# Altium schematic symbol library Karen_Components.SchLib: 203 symbols (part 2 of 2)
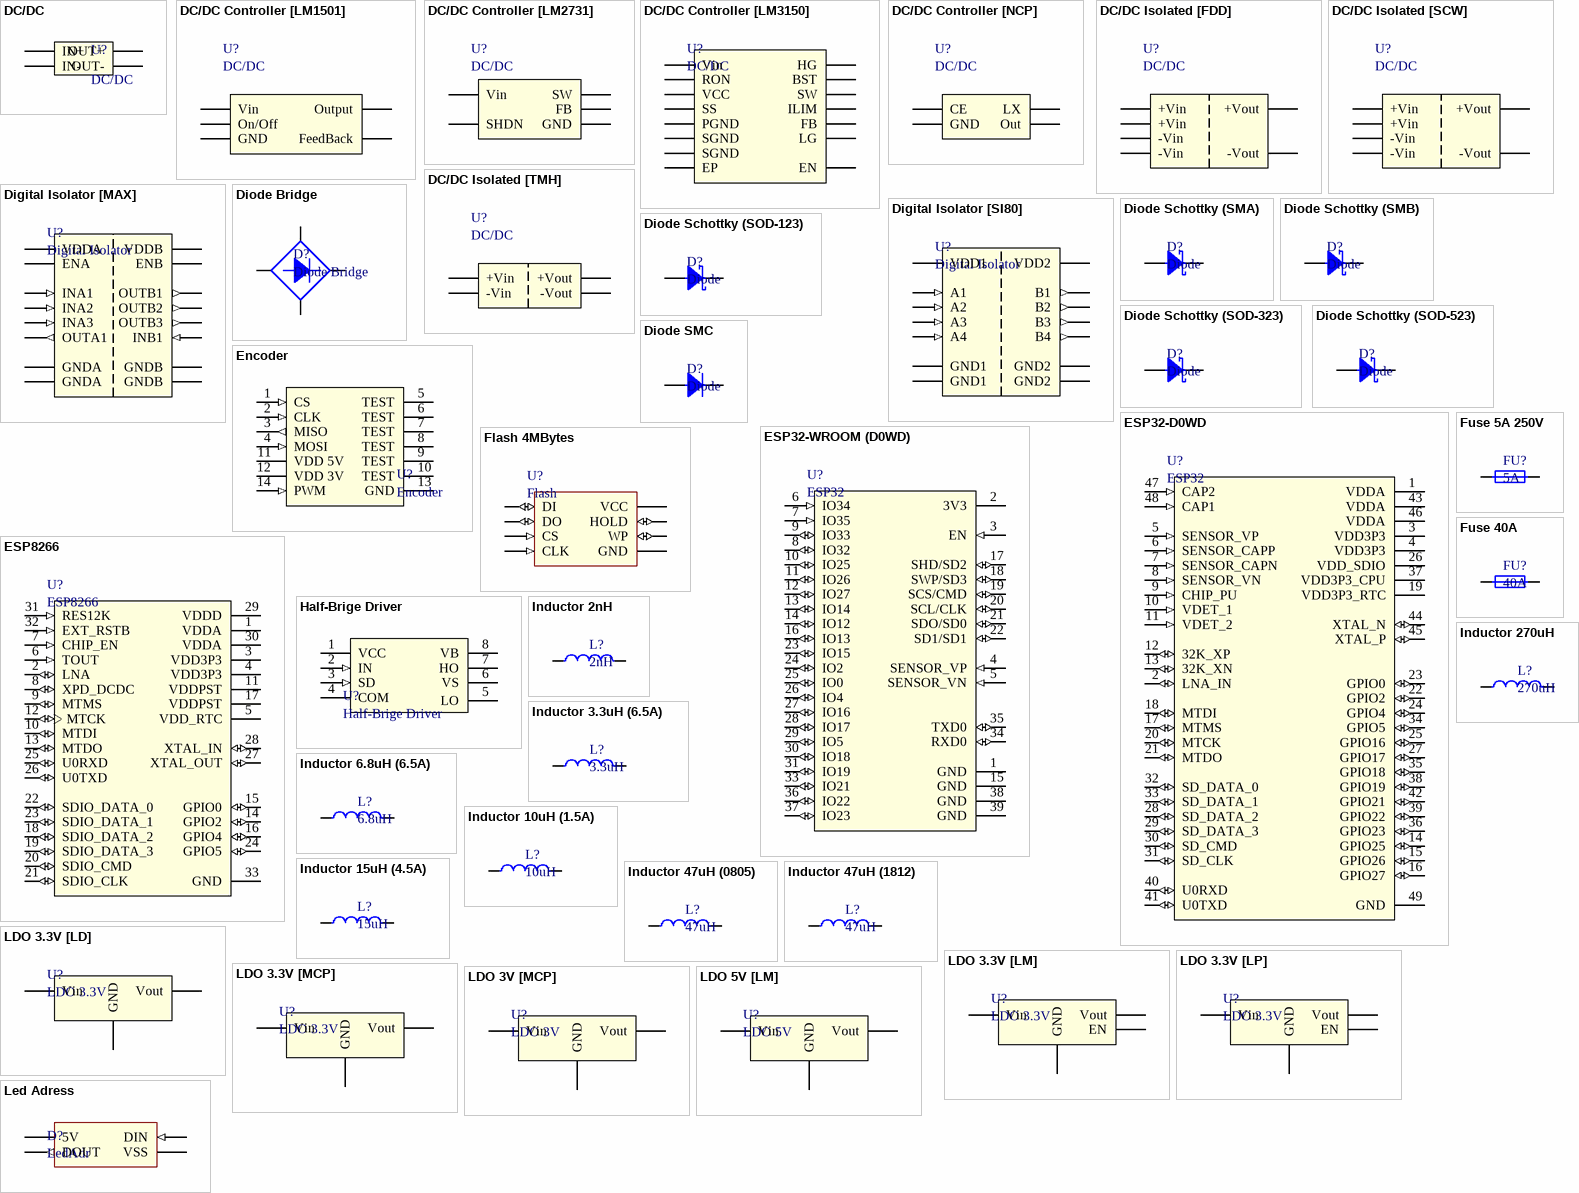
[diagram p6: symbols DC/DC to Led Adress]

## Inductor 2nH
designator L?, comment 2nH
0603, 5%; Part Number: LQG18HN8N2J00D; Manufacturer: Murata Manufacturing; Type: Inductor; ComponentLink1Description: DataSheet; ComponentLink1URL: https://static6.arrow.com/aropdfconversion/c1583adeb79d7b8ba7badcc32120e4a48424949a/product.pdf; ComponentLink2Description: Chip&Dip; ComponentLink2URL: https://www.chipdip.ru/product/lqg18hn8n2j
footprint 0603 Resistor
pins: 1, 2

## Inductor 3.3uH (6.5A)
designator L?, comment 3.3uH
3.3uH, 5.4x5.1x2, 6.5A; Part Number: SPM5020T-3R3M-LR; Manufacturer: TDK; Type: Inductor; ComponentLink1Description: DataSheet; ComponentLink1URL: https://static.chipdip.ru/lib/015/DOC004015227.pdf; ComponentLink2Description: Chip&Dip; ComponentLink2URL: https://www.chipdip.ru/product0/9000523845
footprint Inductor 5.4x5.1
pins: 1, 2

## Inductor 6.8uH (6.5A)
designator L?, comment 6.8uH
6.8 uH, 4.2 А, 20%, 5.4х5.1х2mm; Part Number: SPM5020T-6R8M-LR; Manufacturer: TDK; Type: Inductor; ComponentLink1Description: DataSheet; ComponentLink1URL: https://static.chipdip.ru/lib/015/DOC004015227.pdf; ComponentLink2Description: Chip&Dip; ComponentLink2URL: https://www.chipdip.ru/product0/9000523846
footprint Inductor 5.4x5.1
pins: 1, 2

## Inductor 10uH (1.5A)
designator L?, comment 10uH
10uH, D=5.8mm, 1450mA; Part Number: SDR0604-100ML; Manufacturer: Bourns; Type: Inductor; ComponentLink1Description: DataSheet; ComponentLink1URL: http://www.farnell.com/datasheets/1635216.pdf; ComponentLink2Description: Chip&Dip; ComponentLink2URL: https://www.chipdip.ru/product/sdr0604-100ml
footprint SDR
pins: 1, 2

## Inductor 15uH (4.5A)
designator L?, comment 15uH
15uH, 12.8x12.8, 4.5A; Part Number: B82477G4153M; Manufacturer: Epcos; Type: Inductor; ComponentLink1Description: DataSheet; ComponentLink1URL: https://static.chipdip.ru/lib/009/DOC001009882.pdf; ComponentLink2Description: Chip&Dip; ComponentLink2URL: https://www.chipdip.ru/product/b82477g4153m
footprint Inductor 12.8 x 12.8 x 8.0
pins: 1, 2

## Inductor 47uH (0805)
designator L?, comment 47uH
20%; Part Number: MLZ2012M470WT000; Manufacturer: TDK; Type: Inductor; ComponentLink1Description: DataSheet; ComponentLink1URL: https://static.chipdip.ru/lib/492/DOC001492193.pdf; ComponentLink2Description: Chip&Dip; ComponentLink2URL: https://www.chipdip.ru/product/mlz2012m470wt000-47
footprint 0805 Resistor
pins: 1, 2

## Inductor 47uH (1812)
designator L?, comment 47uH
Part Number: CM453232-470KL; Manufacturer: Bourns; Type: Inductor; ComponentLink1Description: DataSheet; ComponentLink1URL: http://www.farnell.com/datasheets/2277343.pdf; ComponentLink2Description: Chip&Dip; ComponentLink2URL: https://www.chipdip.ru/product/cm453232-470kl
footprint 1812 Inductor
pins: 1, 2

## Inductor 270uH
designator L?, comment 270uH
270 uH, 1210, 5%; Part Number: NLV32T-271J-EF; Manufacturer: TDK; Type: Inductor; ComponentLink1Description: DataSheet; ComponentLink1URL: https://static.chipdip.ru/lib/492/DOC001492199.pdf; ComponentLink2Description: Chip&Dip; ComponentLink2URL: https://www.chipdip.ru/product/nlv32t-271j-ef-270
footprint 1210 Inductor
pins: 1, 2

## LDO 3.3V [LD]
designator U?, comment LDO 3.3V
LDO Regulator Pos 3.3V 1.3A 4-Pin(3+Tab) SOT-223 T/R; Part Number: LD1117S33CTR; Manufacturer: STMicroelectronics; ComponentLink1Description: DataSheet; ComponentLink1URL: https://static.chipdip.ru/lib/292/DOC000292513.pdf; ComponentLink2Description: Chip&Dip; ComponentLink2URL: https://www.chipdip.ru/product/ld1117s33ctr-2
footprint SOT-223
pins: 1 GND (power), 2 Vout (power), 3 Vin (power)

## LDO 3.3V [LM]
designator U?, comment LDO 3.3V
low-dropout linear regulator. There are devices designed specifically for battery-operated systems. Ground current is very small (50uA-Typ), that significantly extending battery life. Low power consumption and high accuracy is achieved through CMOS and programmable fuse technologies. Output voltage: 1.5V to 6.0V.; Part Number: LM8805SF5-3.3; Manufacturer: TAEJIN TECHNOLOGY; ComponentLink1Description: DataSheet; ComponentLink1URL: https://static.chipdip.ru/lib/138/DOC004138842.pdf; ComponentLink2Description: Chip&Dip; ComponentLink2URL: https://www.chipdip.ru/product/lm8805sf5-3.3
footprint SOT-23-5
pins: 1 Vin (power), 2 GND (power), 3 EN (power), 5 Vout (power)

## LDO 3.3V [LP]
designator U?, comment LDO 3.3V
Low-noise LDO that can supply up  to 250mA output curren. This device is  available with fixed output voltages from 1.2 V to 4.5 V in 25-mV steps; Part Number: LP5907MFX-3.3/NOPB; Manufacturer: Texas Instruments; ComponentLink1Description: DataSheet; ComponentLink1URL: https://static.chipdip.ru/lib/551/DOC001551778.pdf; ComponentLink2Description: Chip&Dip; ComponentLink2URL: https://www.chipdip.ru/product/lp5907mfx-3.3-nopb; ComponentLink3Description: Elitan; ComponentLink3URL: https://www.elitan.ru/price/item9999140
footprint SOT-23-5
pins: 1 Vin (power), 2 GND (power), 3 EN (power), 5 Vout (power)

## LDO 3.3V [MCP]
designator U?, comment LDO 3.3V
A family of CMOS low dropout (LDO)voltage  regulators  that  can  deliver  up  to  250 mA  ofcurrent  while  consuming  only  1.6 μA  of  quiescentcurrent (typical). The input operating range is specifiedfrom 2.3V to 6.0V; Part Number: MCP1700T-3302E/TT; Manufacturer: Microchip; ComponentLink1Description: DataSheet; ComponentLink1URL: https://static.chipdip.ru/lib/276/DOC000276804.pdf; ComponentLink2Description: Chip&Dip; ComponentLink2URL: https://www.chipdip.ru/product/mcp1700t-3302e-tt; ComponentLink3Description: Elitan; ComponentLink3URL: https://www.elitan.ru/price/item595361
footprint SOT-23
pins: 1 GND (power), 2 Vout (power), 3 Vin (power)

## LDO 3V [MCP]
designator U?, comment LDO 3V
MCP1702 Low Dropout Voltage Regulator. The input operating range is specifiedfrom 2.7V to 13.2V; Part Number: MCP1702T-3002E/CB; Manufacturer: Microchip; ComponentLink1Description: DataSheet; ComponentLink1URL: https://static.chipdip.ru/lib/986/DOC003986671.pdf; ComponentLink2Description: Chip&Dip; ComponentLink2URL: https://www.chipdip.ru/product/mcp1702t-3002e-cb-microchip
footprint SOT-23
pins: 1 GND (power), 2 Vout (power), 3 Vin (power)

## LDO 5V [LM]
designator U?, comment LDO 5V
A low dropout Linear Regulator with a dropout of 5V at 800mA of load current; Part Number: LM1117IMPX-5.0/NOPB; Manufacturer: Texas Instruments; ComponentLink1Description: DataSheet; ComponentLink1URL: https://static.chipdip.ru/lib/276/DOC000276680.pdf; ComponentLink2Description: Chip&Dip; ComponentLink2URL: https://www.chipdip.ru/product/lm1117impx-5.0-nopb
footprint SOT-223
pins: 1 GND (power), 2 Vout (power), 3 Vin (power)

## Led Adress
designator D?, comment LedAdr
Manufacturer: Shenzhen Shining Opto-Electronic; Part Number: WS2812B; Type: Diode; ComponentLink1Description: DataSheet; ComponentLink1URL: https://static.chipdip.ru/lib/554/DOC001554925.pdf; ComponentLink2Description: Chip&Dip; ComponentLink2URL: https://www.chipdip.ru/product/ws2812b
footprint WS2812B
pins: 1 5V (power), 2 DOUT (out), 3 VSS (power), 4 DIN (in)

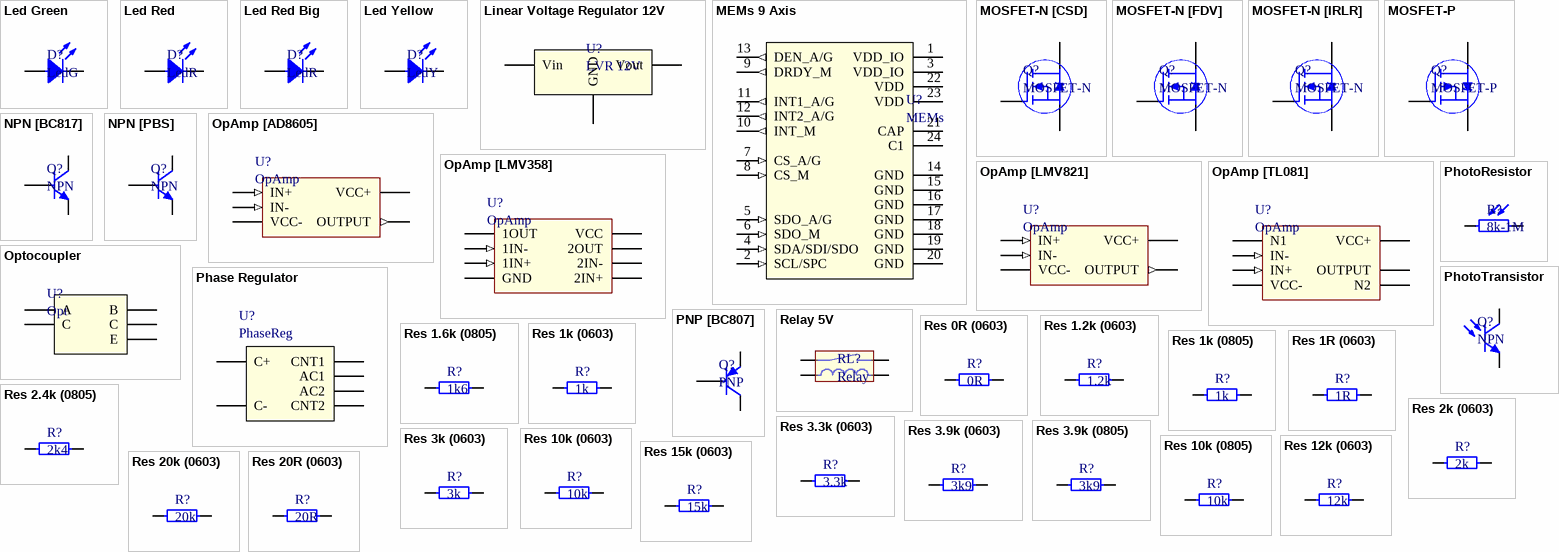
[diagram p3: symbols Led Green to Res 20R (0603)]

## Led Green
designator D?, comment LedG
Led Green SMD 1608, 120°, 525nM; Part Number: TO-1608BC-PG; Manufacturer: Taiwan Oasis Technology; Type: Diode; ComponentLink1Description: Chip&Dip; ComponentLink1URL: https://www.chipdip.ru/product/to-1608bc-pg
footprint 0805 LED
pins: 1, 2

## Led Red
designator D?, comment LedR
SMD 1608, 112mcd, 120°, 630nM (Ultra Bright Red); Part Number: TO-1608BC-MRE; Manufacturer: Taiwan Oasis Technology; Type: Diode; ComponentLink1Description: Chip&Dip; ComponentLink1URL: https://www.chipdip.ru/product/to-1608bc-mre
footprint 0805 LED
pins: 1, 2

## Led Red Big
designator D?, comment LedR
Led Red, SMD 3228, 120°, 630nM (Ultra Bright Red); Part Number: TO-3228BC-MRG; Manufacturer: Taiwan Oasis Technology; Type: Diode; ComponentLink1Description: Chip&Dip; ComponentLink1URL: https://www.chipdip.ru/product/to-3228bc-mrg
footprint LED
pins: 1, 2

## Led Yellow
designator D?, comment LedY
SMD 1608, 247mcd, 120°, 592nM (High Bright Yellow); Part Number: TO-1608BC-MYF; Manufacturer: Taiwan Oasis Technology; Type: Diode; ComponentLink1Description: Chip&Dip; ComponentLink1URL: https://www.chipdip.ru/product/to-1608bc-myf
footprint 0805 LED
pins: 1, 2

## Linear Voltage Regulator 12V
designator U?, comment LVR 12V
These regulators can provide local on-card regulation, eliminating the distribution problems associated with single point regulation.; Part Number: L7812CD2T-TR; Manufacturer: STMicroelectronics; ComponentLink1Description: Chip&Dip; ComponentLink1URL: https://www.chipdip.ru/product/l7812cd2t-tr; ComponentLink2Description: DataSheet; ComponentLink2URL: https://static.chipdip.ru/lib/804/DOC000804929.pdf
footprint D2-PAK (TO-262)
pins: 1 Vin (power), 2 GND (power), 3 Vout (power)

## MEMs 9 Axis
designator U?, comment MEMs
System-in-package featuring a 3D digital linear acceleration sensor, a 3D digital angular rate sensor, and a 3D digital magnetic sensor; Manufacturer: STMicroelectronics; Part Number: LSM9DS1TR; ComponentLink1Description: DataSheet; ComponentLink1URL: https://static.chipdip.ru/lib/427/DOC004427868.pdf; ComponentLink2Description: Chip&Dip; ComponentLink2URL: https://www.chipdip.ru/product/lsm9ds1tr; Type: IC
footprint LGA 3.5x3x1 mm 24-lead
pins: 1 VDD_IO (power) "Power supply for I/O pins", 2 SCL/SPC (in) "I2C serial clock (SCL) / SPI serial port clock (SPC)", 3 VDD_IO (power) "Power supply for I/O pins", 4 SDA/SDI/SDO (in) "I2C serial data (SDA); SPI serial data input (SDI); 3-wire interface serial data output (SDO)", 5 SDO_A/G (in) "SPI serial data output (SDO) for the accelerometer and gyroscopeI2C least significant bit of the device address (SA0) for the accelerometer and gyroscope", 6 SDO_M (in) "SPI serial data output (SDO) for the magnetometerI2C least significant bit of the device address (SA0) for the magnetometer", 7 CS_A/G (in) "SPI enable I2C/SPI mode selection for the accelerometer and gyroscope (1: SPI idle mode / I2C communication enabled; 0: SPI communication mode / I2C disabled)", 8 CS_M (in) "SPI enable I2C/SPI mode selection for the magnetometer (1: SPI idle mode / I2C communication enabled; 0: SPI communication mode / I2C disabled)", 9 DRDY_M (out) "Magnetic sensor data ready", 10 INT_M (out) "Magnetic sensor interrupt", 11 INT1_A/G (out) "Accelerometer and gyroscope interrupt 1", 12 INT2_A/G (out) "Accelerometer and gyroscope interrupt 2", 13 DEN_A/G (out) "Accelerometer and gyroscope data enable", 14 GND (power), 15 GND (power), 16 GND (power), 17 GND (power), 18 GND (power), 19 GND (power), 20 GND (power), 21 CAP (oc) "Connected to GND with ceramic capacitor", 22 VDD (power) "Power supply", 23 VDD (power) "Power supply", 24 C1 (oc) "Capacitor connection (C1 = 100 nF)"

## MOSFET-N [CSD]
designator Q?, comment MOSFET-N
NexFET™ N-channel Power MOSFET designed to minimize losses in power conversion applications; Part Number: CSD19534Q5A; Manufacturer: Texas Instruments; Type: Transistor; ComponentLink1Description: DataSheet; ComponentLink1URL: http://www.ti.com/lit/ds/symlink/csd19534q5a.pdf; ComponentLink2Description: Chip&Dip; ComponentLink2URL: https://www.chipdip.ru/product/csd19534q5at
footprint VSON
pins: 1 Gate, 2 Drain, 3 Source

## MOSFET-N [FDV]
designator Q?, comment MOSFET-N
These N-Channel enhancement mode field effect transistors areproduced  using  Fairchild's  proprietary,  high  cell  density,  DMOStechnology.; Part Number: FDV303N; Manufacturer: Fairchild Semiconductor; Type: Transistor; ComponentLink1Description: DataSheet; ComponentLink1URL: https://static.chipdip.ru/lib/009/DOC001009115.pdf; ComponentLink2Description: Chip&Dip; ComponentLink2URL: https://www.chipdip.ru/product/fdv303n
footprint SOT-23
pins: 1 Gate, 2 Source, 3 Drain

## MOSFET-N [IRLR]
designator Q?, comment MOSFET-N
Trans MOSFET N-CH Si 55V 89A 3-Pin(2+Tab) DPAK Tube; Part Number: IRLR3705ZTRPBF; Manufacturer: International Rectifier; Type: Transistor; ComponentLink1Description: DataSheet; ComponentLink1URL: https://static.chipdip.ru/lib/292/DOC000292789.pdf; ComponentLink2Description: Chip&Dip; ComponentLink2URL: https://www.chipdip.ru/product/irlr3705zpbf
footprint D-Pak (TO-252AA)
pins: 1 Gate, 2 Drain, 3 Source

## MOSFET-P
designator Q?
12VDS TrenchFET® P-channel enhancement-mode Power MOSFET suitable for load switch and battery switch applications; Part Number: SI2333DDS-T1-GE3; Manufacturer: Vishay; Type: Transistor; ComponentLink1Description: Chip&Dip; ComponentLink1URL: https://www.chipdip.ru/product/si2333dds-t1-ge3; ComponentLink2Description: DataSheet; ComponentLink2URL: http://www.farnell.com/datasheets/2188938.pdf
footprint SOT-23
pins: 1 Gate, 2 Source, 3 Drain

## NPN [BC817]
designator Q?, comment NPN
NPN general-purpose transistors; Part Number: BC817-40,215; Manufacturer: Nexperia; Type: Transistor; ComponentLink1Description: DataSheet; ComponentLink1URL: https://static.chipdip.ru/lib/156/DOC000156781.pdf; ComponentLink2Description: Chip&Dip; ComponentLink2URL: https://www.chipdip.ru/product/bc817-40
footprint SOT-23
pins: 1, 2, 3

## NPN [PBS]
designator Q?, comment NPN
NPN low VCEsat transistor in a SOT223 plastic package; Part Number: PBSS4540Z,115; Manufacturer: Nexperia; Type: Transistor; ComponentLink1Description: DataSheet; ComponentLink1URL: https://static.chipdip.ru/lib/583/DOC001583057.pdf; ComponentLink2Description: Chip&Dip; ComponentLink2URL: https://www.chipdip.ru/product/pbss4540z.115
footprint SOT-223
pins: 1, 2, 3

## OpAmp [AD8605]
designator U?, comment OpAmp
Rail-to-rail input and output, single-supply amplifier; Part Number: AD8605ARTZ-REEL7; Manufacturer: Analog Devices; ComponentLink1Description: DataSheet; ComponentLink1URL: https://static.chipdip.ru/lib/310/DOC000310082.pdf; ComponentLink2Description: Chip&Dip; ComponentLink2URL: https://www.chipdip.ru/product/ad8605artz; Type: IC
footprint SOT-23-5
pins: 1 OUTPUT (out), 2 VCC- (power), 3 IN+ (in) "Offset Null", 4 IN- (in), 5 VCC+ (power)

## OpAmp [LMV358]
designator U?, comment OpAmp
Low Voltage Operational Amplifiers; Part Number: LMV358IDR; Manufacturer: Texas Instruments; ComponentLink1Description: DataSheet; ComponentLink1URL: https://static.chipdip.ru/lib/321/DOC000321492.pdf; ComponentLink2Description: Chip&Dip; ComponentLink2URL: https://www.chipdip.ru/product/lmv358idr-pbf; Type: IC
footprint SO-8
pins: 1 1OUT (oc) "Offset Null", 2 1IN- (in), 3 1IN+ (in), 4 GND (power), 5 2IN+ (oc), 6 2IN- (oc), 7 VCC (power), 7 2OUT (oc)

## OpAmp [LMV821]
designator U?, comment OpAmp
A single low power precision Operational Amplifier intended for use in a wide range of applications; Part Number: LMV821M5/NOPB; Manufacturer: Texas Instruments; ComponentLink1Description: DataSheet; ComponentLink1URL: https://static.chipdip.ru/lib/235/DOC000235297.pdf; ComponentLink2Description: Chip&Dip; ComponentLink2URL: https://www.chipdip.ru/product/lmv821m5; Type: IC
footprint SOT-23-5
pins: 1 IN+ (in) "Offset Null", 2 VCC- (power), 3 IN- (in), 4 OUTPUT (out), 5 VCC+ (power)

## OpAmp [TL081]
designator U?, comment OpAmp
General Purpose J-FET Single Operational Amplifier; Part Number: TL081CDT; Manufacturer: STMicroelectronics; ComponentLink1Description: DataSheet; ComponentLink1URL: https://static.chipdip.ru/lib/205/DOC000205098.pdf; ComponentLink2Description: Chip&Dip; ComponentLink2URL: https://www.chipdip.ru/product/tl081cd; Type: IC
footprint SO-8
pins: 1 N1 (oc) "Offset Null", 2 IN- (in), 3 IN+ (in), 4 VCC- (power), 5 N2 (oc), 6 OUTPUT (oc), 7 VCC+ (power)

## Optocoupler
designator U?, comment Opt
Part Number: 4N25; Manufacturer: Vishay; ComponentLink1Description: DataSheet; ComponentLink1URL: https://static.chipdip.ru/lib/028/DOC001028582.pdf; ComponentLink2Description: Chip&Dip; ComponentLink2URL: https://www.chipdip.ru/product/4n25-vishay; Type: IC
footprint DIP6
pins: 1 A, 2 C, 4 E (oe), 5 C (oc), 6 B

## Phase Regulator
designator U?, comment PhaseReg
Manufacturer: Russia; Part Number: KR1182PM1; ComponentLink1Description: Chip&Dip; ComponentLink1URL: https://www.chipdip.ru/product/k1182pm1r; ComponentLink2Description: DataSheet; ComponentLink2URL: https://static.chipdip.ru/lib/143/DOC000143428.pdf; Type: IC
footprint DIP16; pin to pad 10, 11>10+11 14, 15>14+15
pins: 3 C+ "Input Supply Voltage", 6 C-, 9 CNT2, 10, 11 AC2 (power), 14, 15 AC1 (power), 16 CNT1

## PhotoResistor
designator R?, comment 8k-1M
[GL5528]; Part Number: GL5528; Manufacturer: China; Type: Resistor; ComponentLink1Description: DataSheet; ComponentLink1URL: https://pi.gate.ac.uk/pages/airpi-files/PD0001.pdf
footprint PhotoResistor
pins: 1, 2

## PhotoTransistor
designator Q?, comment NPN
Part Number: L-7113P3C; Manufacturer: Kingbright; Type: Transistor; ComponentLink1Description: DataSheet; ComponentLink1URL: https://static.chipdip.ru/lib/195/DOC000195179.pdf; ComponentLink2Description: Chip&Dip; ComponentLink2URL: https://www.chipdip.ru/product/l-53p3c
footprint PhotoTransistor
pins: 1, 2

## PNP [BC807]
designator Q?, comment PNP
PNP general-purpose transistors; Part Number: BC807,215; Manufacturer: Nexperia; Type: Transistor; ComponentLink1Description: DataSheet; ComponentLink1URL: https://static.chipdip.ru/lib/078/DOC001078227.pdf; ComponentLink2Description: Chip&Dip; ComponentLink2URL: https://www.chipdip.ru/product/bc807.215
footprint SOT-23
pins: 1, 2, 3

## Relay 5V
designator RL?, comment Relay
High ratings: 12A 125VAC, 10A 277VAC/30VDC, TV-5, 1/4HP 125/250VAC; Manufacturer: Song Chuan Precision; Part Number: 834-1A-B-C 05VDC; ComponentLink1Description: Chip&Dip; ComponentLink1URL: https://www.chipdip.ru/product/834-1a-b-c-05vdc; ComponentLink2Description: DataSheet; ComponentLink2URL: https://static.chipdip.ru/lib/156/DOC000156754.pdf; Type: Relay
footprint Relay 1 Form A
pins: 1, 2, 3, 4

## Res 0R (0603)
designator R?, comment 0R
0.1W 0603 0R, 5%; Part Number: RC0603JR-070RL; Manufacturer: Taiwan; Type: Resistor; ComponentLink1Description: Chip&Dip; ComponentLink1URL: https://www.chipdip.ru/product0/9000070541
footprint 0603 Resistor
pins: 1, 2

## Res 1.2k (0603)
designator R?, comment 1.2k
0.1W 0603 1.2k, 1%; Part Number: RC0603FR-071K2L; Manufacturer: Taiwan; Type: Resistor; ComponentLink1Description: Chip&Dip; ComponentLink1URL: https://www.chipdip.ru/product0/9000079678
footprint 0603 Resistor
pins: 1, 2

## Res 1.6k (0805)
designator R?, comment 1k6
0.125W 0805 1.6k, 1%; Part Number: RC0805FR-071K6L; Manufacturer: Taiwan; Type: Resistor; ComponentLink1Description: Chip&Dip; ComponentLink1URL: https://www.chipdip.ru/product0/9000079491
footprint 0805 Resistor
pins: 1, 2

## Res 1k (0603)
designator R?, comment 1k
0.1W 0603 1k, 1%; Part Number: RC0603FR-071KL; Manufacturer: Taiwan; Type: Resistor; ComponentLink1Description: Chip&Dip; ComponentLink1URL: https://www.chipdip.ru/product0/9000079676
footprint 0603 Resistor
pins: 1, 2

## Res 1k (0805)
designator R?, comment 1k
0.125W 0805 1k, 1%; Part Number: RC0805FR-071KL; Manufacturer: Taiwan; Type: Resistor; ComponentLink1Description: Chip&Dip; ComponentLink1URL: https://www.chipdip.ru/product0/9000079486
footprint 0805 Resistor
pins: 1, 2

## Res 1R (0603)
designator R?, comment 1R
0.1W 0603 1R, 1%; Part Number: RC0603FR-071RL; Manufacturer: Taiwan; Type: Resistor; ComponentLink1Description: Chip&Dip; ComponentLink1URL: https://www.chipdip.ru/product0/9000079509
footprint 0603 Resistor
pins: 1, 2

## Res 2.4k (0805)
designator R?, comment 2k4
0.125W 0805 2.4k, 1%; Part Number: RC0805FR-072K4L; Manufacturer: Taiwan; Type: Resistor; ComponentLink1Description: Chip&Dip; ComponentLink1URL: https://www.chipdip.ru/product0/9000079495
footprint 0805 Resistor
pins: 1, 2

## Res 2k (0603)
designator R?, comment 2k
0.1W 0603 2k, 1%; Part Number: RC0603FR-072KL; Manufacturer: Taiwan; Type: Resistor; ComponentLink1Description: Chip&Dip; ComponentLink1URL: https://www.chipdip.ru/product0/9000079719
footprint 0603 Resistor
pins: 1, 2

## Res 3.3k (0603)
designator R?, comment 3.3k
0.1W 0603 3.3k, 1%; Part Number: RC0603FR-073K3L; Manufacturer: Taiwan; Type: Resistor; ComponentLink1Description: Chip&Dip; ComponentLink1URL: https://www.chipdip.ru/product0/9000079724
footprint 0603 Resistor
pins: 1, 2

## Res 3.9k (0603)
designator R?, comment 3k9
0.1W 0603 3.9k, 1%; Part Number: RC0603FR-073K9L; Manufacturer: Taiwan; Type: Resistor; ComponentLink1Description: Chip&Dip; ComponentLink1URL: https://www.chipdip.ru/product0/9000079726
footprint 0603 Resistor
pins: 1, 2

## Res 3.9k (0805)
designator R?, comment 3k9
0.125W 0805 3.9k, 1%; Part Number: RC0805FR-073K9L; Manufacturer: Taiwan; Type: Resistor; ComponentLink1Description: Chip&Dip; ComponentLink1URL: https://www.chipdip.ru/product0/9000079500
footprint 0805 Resistor
pins: 1, 2

## Res 3k (0603)
designator R?, comment 3k
0.1W 0603 3k, 1%; Part Number: RC0603FR-073KL; Manufacturer: Taiwan; Type: Resistor; ComponentLink1Description: Chip&Dip; ComponentLink1URL: https://www.chipdip.ru/product0/9000079723
footprint 0603 Resistor
pins: 1, 2

## Res 10k (0603)
designator R?, comment 10k
0.1W 0603 10k, 1%; Part Number: RC0603FR-0710KL; Manufacturer: Taiwan; Type: Resistor; ComponentLink1Description: Chip&Dip; ComponentLink1URL: https://www.chipdip.ru/product0/9000079736
footprint 0603 Resistor
pins: 1, 2

## Res 10k (0805)
designator R?, comment 10k
0.125W 0805 10k, 1%; Part Number: RC0805FR-0710KL; Manufacturer: Taiwan; Type: Resistor; ComponentLink1Description: Chip&Dip; ComponentLink1URL: https://www.chipdip.ru/product0/9000079514
footprint 0805 Resistor
pins: 1, 2

## Res 12k (0603)
designator R?, comment 12k
0.1W 0603 12k, 1%; Part Number: RC0603FR-0712KL; Manufacturer: Taiwan; Type: Resistor; ComponentLink1Description: Chip&Dip; ComponentLink1URL: https://www.chipdip.ru/product0/9000079738
footprint 0603 Resistor
pins: 1, 2

## Res 15k (0603)
designator R?, comment 15k
0.1W 0603 15k, 1%; Part Number: RC0603FR-0715KL; Manufacturer: Taiwan; Type: Resistor; ComponentLink1Description: Chip&Dip; ComponentLink1URL: https://www.chipdip.ru/product0/9000079740
footprint 0603 Resistor
pins: 1, 2

## Res 20k (0603)
designator R?, comment 20k
0.1W 0603 10k, 1%; Part Number: RC0603FR-0720KL; Manufacturer: Taiwan; Type: Resistor; ComponentLink1Description: Chip&Dip; ComponentLink1URL: https://www.chipdip.ru/product0/9000079743
footprint 0603 Resistor
pins: 1, 2

## Res 20R (0603)
designator R?, comment 20R
0.1W 0603 20R, 5%; Part Number: RC0603JR-0720RL; Manufacturer: Taiwan; Type: Resistor; ComponentLink1Description: Chip&Dip; ComponentLink1URL: https://www.chipdip.ru/product0/9000215377
footprint 0603 Resistor
pins: 1, 2

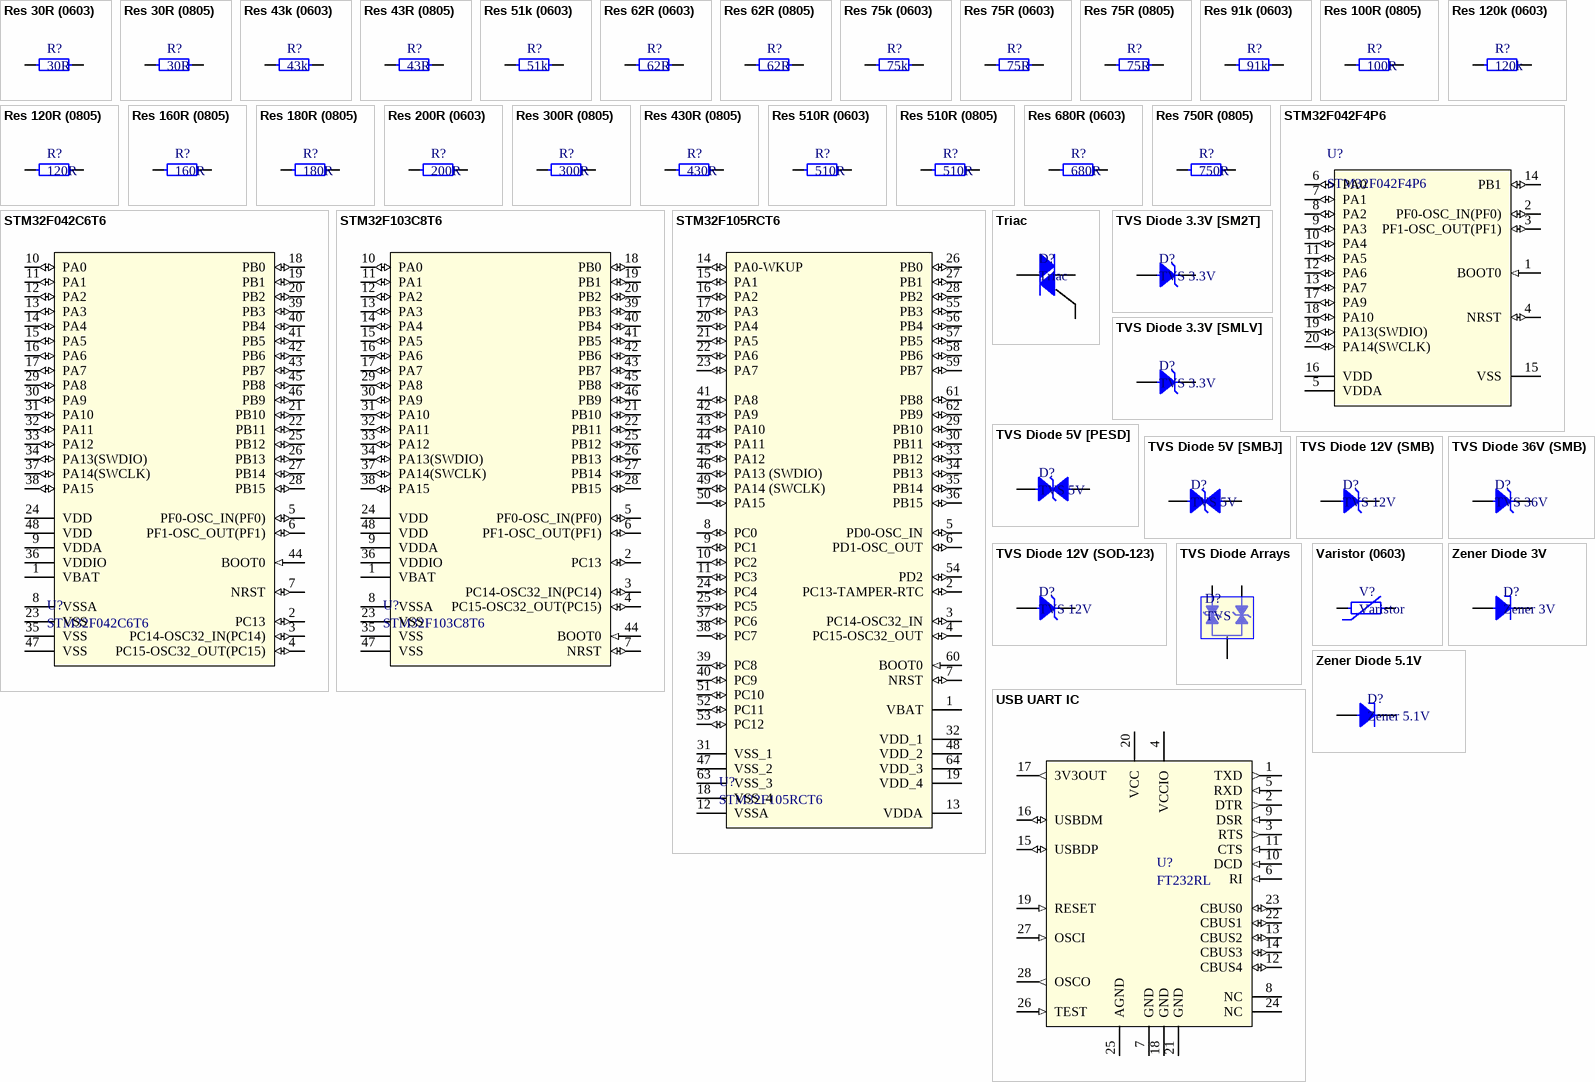
[diagram p4: symbols Res 30R (0603) to Zener Diode 5.1V]

## Res 30R (0603)
designator R?, comment 30R
0.1W 0603 30R, 1%; Part Number: RC0603FR-0730RL; Manufacturer: Taiwan; Type: Resistor; ComponentLink1Description: Chip&Dip; ComponentLink1URL: https://www.chipdip.ru/product0/9000079603
footprint 0603 Resistor
pins: 1, 2

## Res 30R (0805)
designator R?, comment 30R
0.125W 0805 30R, 1%; Part Number: RC0805FR-0730RL; Manufacturer: Taiwan; Type: Resistor; ComponentLink1Description: Chip&Dip; ComponentLink1URL: https://www.chipdip.ru/product0/9000079449
footprint 0805 Resistor
pins: 1, 2

## Res 43k (0603)
designator R?, comment 43k
0.1W 0603 43k, 1%; Part Number: RC0603FR-0743KL; Manufacturer: Taiwan; Type: Resistor; ComponentLink1Description: Chip&Dip; ComponentLink1URL: https://www.chipdip.ru/product0/9000079751
footprint 0603 Resistor
pins: 1, 2

## Res 43R (0805)
designator R?, comment 43R
0.125W 0805 43R, 1%; Part Number: RC0805FR-0743RL; Manufacturer: Taiwan; Type: Resistor; ComponentLink1Description: Chip&Dip; ComponentLink1URL: https://www.chipdip.ru/product0/9000079453
footprint 0805 Resistor
pins: 1, 2

## Res 51k (0603)
designator R?, comment 51k
0.1W 0603 51k, 1%; Part Number: RC0603FR-0751KL; Manufacturer: Taiwan; Type: Resistor; ComponentLink1Description: Chip&Dip; ComponentLink1URL: https://www.chipdip.ru/product0/9000079753
footprint 0603 Resistor
pins: 1, 2

## Res 62R (0603)
designator R?, comment 62R
0.1W 0603 62R, 1%; Part Number: RC0603FR-0762RL; Manufacturer: Taiwan; Type: Resistor; ComponentLink1Description: Chip&Dip; ComponentLink1URL: https://www.chipdip.ru/product0/9000079611
footprint 0603 Resistor
pins: 1, 2

## Res 62R (0805)
designator R?, comment 62R
0.125W 0805 62R, 1%; Part Number: RC0805FR-0762RL; Manufacturer: Taiwan; Type: Resistor; ComponentLink1Description: Chip&Dip; ComponentLink1URL: https://www.chipdip.ru/product0/9000079457
footprint 0805 Resistor
pins: 1, 2

## Res 75k (0603)
designator R?, comment 75k
0.1W 0603 75k, 1%; Part Number: RC0603FR-0775KL; Manufacturer: Taiwan; Type: Resistor; ComponentLink1Description: Chip&Dip; ComponentLink1URL: https://www.chipdip.ru/product0/9000079757
footprint 0603 Resistor
pins: 1, 2

## Res 75R (0603)
designator R?, comment 75R
0.1W 0603 75R, 1%; Part Number: RC0603FR-0775RL; Manufacturer: Taiwan; Type: Resistor; ComponentLink1Description: Chip&Dip; ComponentLink1URL: https://www.chipdip.ru/product0/9000079613
footprint 0603 Resistor
pins: 1, 2

## Res 75R (0805)
designator R?, comment 75R
0.125W 0805 75R, 1%; Part Number: RC0805FR-0775RL; Manufacturer: Taiwan; Type: Resistor; ComponentLink1Description: Chip&Dip; ComponentLink1URL: https://www.chipdip.ru/product0/9000079459
footprint 0805 Resistor
pins: 1, 2

## Res 91k (0603)
designator R?, comment 91k
0.1W 0603 91k, 1%; Part Number: RC0603FR-0791KL; Manufacturer: Taiwan; Type: Resistor; ComponentLink1Description: Chip&Dip; ComponentLink1URL: https://www.chipdip.ru/product0/9000079759
footprint 0603 Resistor
pins: 1, 2

## Res 100R (0805)
designator R?, comment 100R
0.125W 0805 100R, 1%; Part Number: RC0805FR-07100RL; Manufacturer: Taiwan; Type: Resistor; ComponentLink1Description: Chip&Dip; ComponentLink1URL: https://www.chipdip.ru/product0/9000079462
footprint 0805 Resistor
pins: 1, 2

## Res 120k (0603)
designator R?, comment 120k
0.1W 0603 120k, 1%; Part Number: RC0603FR-07120KL; Manufacturer: Taiwan; Type: Resistor; ComponentLink1Description: Chip&Dip; ComponentLink1URL: https://www.chipdip.ru/product0/9000079762
footprint 0603 Resistor
pins: 1, 2

## Res 120R (0805)
designator R?, comment 120R
0.125W 0805 120R, 1%; Part Number: RC0805FR-07120RL; Manufacturer: Taiwan; Type: Resistor; ComponentLink1Description: Chip&Dip; ComponentLink1URL: https://www.chipdip.ru/product0/9000079464
footprint 0805 Resistor
pins: 1, 2

## Res 160R (0805)
designator R?, comment 160R
0.125W 0805 160R, 1%; Part Number: RC0805FR-07160RL; Manufacturer: Taiwan; Type: Resistor; ComponentLink1Description: Chip&Dip; ComponentLink1URL: https://www.chipdip.ru/product0/9000079467
footprint 0805 Resistor
pins: 1, 2

## Res 180R (0805)
designator R?, comment 180R
0.125W 0805 180R, 1%; Part Number: RC0805FR-07180RL; Manufacturer: Taiwan; Type: Resistor; ComponentLink1Description: Chip&Dip; ComponentLink1URL: https://www.chipdip.ru/product0/9000079468
footprint 0805 Resistor
pins: 1, 2

## Res 200R (0603)
designator R?, comment 200R
0.1W 0603 200R, 1%; Part Number: RC0603FR-07200RL; Manufacturer: Taiwan; Type: Resistor; ComponentLink1Description: Chip&Dip; ComponentLink1URL: https://www.chipdip.ru/product0/9000079623
footprint 0603 Resistor
pins: 1, 2

## Res 300R (0805)
designator R?, comment 300R
0.125W 0805 300R, 1%; Part Number: RC0805FR-07300RL; Manufacturer: Taiwan; Type: Resistor; ComponentLink1Description: Chip&Dip; ComponentLink1URL: https://www.chipdip.ru/product0/9000079473
footprint 0805 Resistor
pins: 1, 2

## Res 430R (0805)
designator R?, comment 430R
0.125W 0805 430R, 1%; Part Number: RC0805FR-07430RL; Manufacturer: Taiwan; Type: Resistor; ComponentLink1Description: Chip&Dip; ComponentLink1URL: https://www.chipdip.ru/product0/9000079477
footprint 0805 Resistor
pins: 1, 2

## Res 510R (0603)
designator R?, comment 510R
0.1W 0603 510R, 1%; Part Number: RC0603FR-07510RL; Manufacturer: Taiwan; Type: Resistor; ComponentLink1Description: Chip&Dip; ComponentLink1URL: https://www.chipdip.ru/product0/9000079669
footprint 0603 Resistor
pins: 1, 2

## Res 510R (0805)
designator R?, comment 510R
0.125W 0805 510R, 1%; Part Number: RC0805FR-07510RL; Manufacturer: Taiwan; Type: Resistor; ComponentLink1Description: Chip&Dip; ComponentLink1URL: https://www.chipdip.ru/product0/9000079479
footprint 0805 Resistor
pins: 1, 2

## Res 680R (0603)
designator R?, comment 680R
0.1W 0603 680R, 1%; Part Number: RC0603FR-07680RL; Manufacturer: Taiwan; Type: Resistor; ComponentLink1Description: Chip&Dip; ComponentLink1URL: https://www.chipdip.ru/product0/9000079672
footprint 0603 Resistor
pins: 1, 2

## Res 750R (0805)
designator R?, comment 750R
0.125W 0805 750R, 1%; Part Number: RC0805FR-07750RL; Manufacturer: Taiwan; Type: Resistor; ComponentLink1Description: Chip&Dip; ComponentLink1URL: https://www.chipdip.ru/product0/9000079483
footprint 0805 Resistor
pins: 1, 2

## STM32F042C6T6
designator U?
ARM®-based 32-bit MCU, up to 32 KB Flash, crystal-less USB / FS 2.0, CAN, 9 timers, ADC and comm. interfaces, 2.0 - 3.6 V; Manufacturer: STMicroelectronics; Part Number: STM32F042C6T6; ComponentLink1Description: DataSheet; ComponentLink1URL: https://ru.mouser.com/datasheet/2/389/stm32f042c4-956225.pdf; ComponentLink2Description: Chip&Dip; ComponentLink2URL: https://www.chipdip.ru/product1/8000831125; Type: IC
footprint LQFP48
pins: 1 VBAT (power) "Battary power supply", 2 PC13 (io) "PC13/RTC_TAMP1,RTC_TS,RTC_OUT,WKUP2", 3 PC14-OSC32_IN(PC14) (io) "PC14-OSC32_IN(PC14)/OSC32_IN", 4 PC15-OSC32_OUT(PC15) (io) "PC15-OSC32_OUT(PC15)/OSC32_OUT", 5 PF0-OSC_IN(PF0) (io) "PF0-OSC_IN(PF0)/OSC_IN", 6 PF1-OSC_OUT(PF1) (io) "PF1-OSC_OUT(PF1)/OSC_OUT", 7 NRST (io) "Device reset input / internal reset output (active low)", 8 VSSA (power) "Analog Ground", 9 VDDA (power) "Analog power supply", 10 PA0 (io) "PA0/TIM2_CH1_ETR,USART1_CTS/ADC_IN0,RTC_TAMP2,WKUP1", 11 PA1 (io) "PA1/TIM2_CH2,EVENTOUT,USART1_RTS/ADC_IN1", 12 PA2 (io) "PA2/TIM2_CH3,USART1_TX/ADC_IN2", 13 PA3 (io) "PA3/TIM2_CH4,USART1_RX/ADC_IN3", 14 PA4 (io) "PA4/SPI1_NSS,I2S1_WS,TIM14_CH1,USART1_CK/ADC_IN4", 15 PA5 (io) "PA5/SPI1_SCK,I2S1_CK,TIM2_CH1_ETR/ADC_IN5", 16 PA6 (io) "PA6/SPI1_MISO,I2S1_MCK,TIM3_CH1,TIM1_BKIN,TIM16_CH1,EVENTOUT/ADC_IN6", 17 PA7 (io) "PA7/SPI1_MOSI,I2S1_SD,TIM3_CH2,TIM14_CH1,TIM1_CH1N,TIM17_CH1,EVENTOUT/ADC_IN7", 18 PB0 (io) "PB0/TIM3_CH3,TIM1_CH2N,EVENTOUT/ADC_IN8", 19 PB1 (io) "PB1/TIM3_CH4,TIM14_CH1,TIM1_CH3N/ADC_IN9", 20 PB2 (io), 21 PB10 (io) "PB10/TIM2_CH3,I2C1_SCL", 22 PB11 (io) "PB11/TIM2_CH4,EVENTOUT,I2C1_SDA", 23 VSS (power) "Ground", 24 VDD (power) "Digital power supply", 25 PB12 (io) "PB12/TIM1_BKIN,EVENTOUT,SPI1_NSS", 26 PB13 (io) "PB13/TIM1_CH1N,SPI1_SCK", 27 PB14 (io) "PB14/TIM1_CH2N,SPI1_MISO", 28 PB15 (io) "PB15/TIM1_CH3N,SPI1_MOSI/RTC_REFIN", 29 PA8 (io) "PA8/USART1_CK,TIM1_CH1,EVENTOUT,MCO", 30 PA9 (io) "PA9/USART1_TX,TIM1_CH2,I2C1_SCL", 31 PA10 (io) "PA10/USART1_RX,TIM1_CH3,TIM17_BKIN,I2C1_SDA", 32 PA11 (io) "PA11/USART1_CTS,TIM1_CH4,EVENTOUT", 33 PA12 (io) "PA12/USART1_RTS,TIM1_ETR,EVENTOUT", 34 PA13(SWDIO) (io) "PA13(SWDAT)/IR_OUT,SWDAT", 35 VSS (power) "Ground", 36 VDDIO (power) "IO power supply", 37 PA14(SWCLK) (io) "PA14(SWCLK)/SWCLK,USART1_TX", 38 PA15 (io) "PA15/SPI1_NSS,I2S1_WS,TIM2_CH_ETR,EVENTOUT,USART1_RX", 39 PB3 (io) "PB3/SPI1_SCK,I2S1_CK,TIM2_CH2,EVENTOUT", 40 PB4 (io) "PB4/SPI1_MISO,I2S1_MCK,TIM3_CH1,EVENTOUT", 41 PB5 (io) "PB5/SPI1_MOSI,I2S1_SD,I2C1_SMBA,TIM16_BKIN,TIM3_CH2", 42 PB6 (io) "PB6/I2C1_SCL,USART1_TX,TIM16_CH1N", 43 PB7 (io) "PB7/I2C1_SDA,USART1_RX,TIM17_CH1N", 44 BOOT0 (in) "Boot memory selection", 45 PB8 (io) "PB8/I2C1_SCL,TIM16_CH1", 46 PB9 (io) "PB9/I2C1_SDA,IR_OUT,TIM17_CH1,EVENTOUT", 47 VSS (power) "Ground", 48 VDD (power) "Digital power supply"

## STM32F042F4P6
designator U?
Cortex-M0, 48MGz, 32Kb Flash (TSSOP-20); Manufacturer: STMicroelectronics; Part Number: STM32F042F4P6; ComponentLink1Description: DataSheet; ComponentLink1URL: https://static.chipdip.ru/lib/507/DOC001507725.pdf; ComponentLink2Description: Chip&Dip; ComponentLink2URL: https://www.chipdip.ru/product/stm32f042f4p6-2; Type: IC
footprint SSOP20 (SOP, 20-Leads, Body 6.6x4.5mm, Pitch 0.65mm, IPC Low Density)
pins: 1 BOOT0 (in) "Boot memory selection", 2 PF0-OSC_IN(PF0) (io) "PF0-OSC_IN(PF0)/OSC_IN", 3 PF1-OSC_OUT(PF1) (io) "PF1-OSC_OUT(PF1)/OSC_OUT", 4 NRST (io) "Device reset input / internal reset output (active low)", 5 VDDA (power) "Analog power supply", 6 PA0 (io) "PA0/USART1_CTS/ADC_IN0,RTC_TAMP2,WKUP1", 7 PA1 (io) "PA1/USART1_RTS,EVENTOUT/ADC_IN1", 8 PA2 (io) "PA2/USART1_TX/ADC_IN2", 9 PA3 (io) "PA3/USART1_RX/ADC_IN3", 10 PA4 (io) "PA4/SPI1_NSS,USART1_CK,TIM14_CH1/ADC_IN4", 11 PA5 (io) "PA5/SPI1_SCK/ADC_IN5", 12 PA6 (io) "PA6/SPI1_MISO,TIM3_CH1,TIM1_BKIN,TIM16_CH1,EVENTOUT/ADC_IN6", 13 PA7 (io) "PA7/SPI1_MOSI,TIM3_CH2,TIM14_CH1,TIM1_CH1N,TIM17_CH1,EVENTOUT/ADC_IN7", 14 PB1 (io) "PB1/TIM3_CH4,TIM14_CH1,TIM1_CH3N/ADC_IN9", 15 VSS (power) "Ground", 16 VDD (power) "Digital power supply", 17 PA9 (io) "PA9/USART1_TX,TIM1_CH2,I2C1_SCL", 18 PA10 (io) "PA10/USART1_RX,TIM1_CH3,TIM17_BKIN,I2C1_SDA", 19 PA13(SWDIO) (io) "PA13(SWDIO)/IR_OUT,SWDIO", 20 PA14(SWCLK) (io) "PA14(SWCLK)/USART1_TX,SWCLK"

## STM32F103C8T6
designator U?
Cortex™-M3 32-bit RISC core operating at a 72 MHz frequency; Manufacturer: STMicroelectronics; Part Number: STM32F103C8T6; ComponentLink1Description: DataSheet; ComponentLink1URL: https://static.chipdip.ru/lib/235/DOC000235733.pdf; ComponentLink2Description: Chip&Dip; ComponentLink2URL: https://www.chipdip.ru/product/stm32f103c8t6; Type: IC
footprint LQFP48
pins: 1 VBAT (power) "Battary power supply", 2 PC13 (io) "PC13/RTC_TAMP1,RTC_TS,RTC_OUT,WKUP2", 3 PC14-OSC32_IN(PC14) (io) "PC14-OSC32_IN(PC14)/OSC32_IN", 4 PC15-OSC32_OUT(PC15) (io) "PC15-OSC32_OUT(PC15)/OSC32_OUT", 5 PF0-OSC_IN(PF0) (io) "PF0-OSC_IN(PF0)/OSC_IN", 6 PF1-OSC_OUT(PF1) (io) "PF1-OSC_OUT(PF1)/OSC_OUT", 7 NRST (io) "Device reset input / internal reset output (active low)", 8 VSSA (power) "Analog Ground", 9 VDDA (power) "Analog power supply", 10 PA0 (io) "PA0/TIM2_CH1_ETR,USART1_CTS/ADC_IN0,RTC_TAMP2,WKUP1", 11 PA1 (io) "PA1/TIM2_CH2,EVENTOUT,USART1_RTS/ADC_IN1", 12 PA2 (io) "PA2/TIM2_CH3,USART1_TX/ADC_IN2", 13 PA3 (io) "PA3/TIM2_CH4,USART1_RX/ADC_IN3", 14 PA4 (io) "PA4/SPI1_NSS,I2S1_WS,TIM14_CH1,USART1_CK/ADC_IN4", 15 PA5 (io) "PA5/SPI1_SCK,I2S1_CK,TIM2_CH1_ETR/ADC_IN5", 16 PA6 (io) "PA6/SPI1_MISO,I2S1_MCK,TIM3_CH1,TIM1_BKIN,TIM16_CH1,EVENTOUT/ADC_IN6", 17 PA7 (io) "PA7/SPI1_MOSI,I2S1_SD,TIM3_CH2,TIM14_CH1,TIM1_CH1N,TIM17_CH1,EVENTOUT/ADC_IN7", 18 PB0 (io) "PB0/TIM3_CH3,TIM1_CH2N,EVENTOUT/ADC_IN8", 19 PB1 (io) "PB1/TIM3_CH4,TIM14_CH1,TIM1_CH3N/ADC_IN9", 20 PB2 (io), 21 PB10 (io) "PB10/TIM2_CH3,I2C1_SCL", 22 PB11 (io) "PB11/TIM2_CH4,EVENTOUT,I2C1_SDA", 23 VSS (power) "Ground", 24 VDD (power) "Digital power supply", 25 PB12 (io) "PB12/TIM1_BKIN,EVENTOUT,SPI1_NSS", 26 PB13 (io) "PB13/TIM1_CH1N,SPI1_SCK", 27 PB14 (io) "PB14/TIM1_CH2N,SPI1_MISO", 28 PB15 (io) "PB15/TIM1_CH3N,SPI1_MOSI/RTC_REFIN", 29 PA8 (io) "PA8/USART1_CK,TIM1_CH1,EVENTOUT,MCO", 30 PA9 (io) "PA9/USART1_TX,TIM1_CH2,I2C1_SCL", 31 PA10 (io) "PA10/USART1_RX,TIM1_CH3,TIM17_BKIN,I2C1_SDA", 32 PA11 (io) "PA11/USART1_CTS,TIM1_CH4,EVENTOUT", 33 PA12 (io) "PA12/USART1_RTS,TIM1_ETR,EVENTOUT", 34 PA13(SWDIO) (io) "PA13(SWDAT)/IR_OUT,SWDAT", 35 VSS (power) "Ground", 36 VDDIO (power) "IO power supply", 37 PA14(SWCLK) (io) "PA14(SWCLK)/SWCLK,USART1_TX", 38 PA15 (io) "PA15/SPI1_NSS,I2S1_WS,TIM2_CH_ETR,EVENTOUT,USART1_RX", 39 PB3 (io) "PB3/SPI1_SCK,I2S1_CK,TIM2_CH2,EVENTOUT", 40 PB4 (io) "PB4/SPI1_MISO,I2S1_MCK,TIM3_CH1,EVENTOUT", 41 PB5 (io) "PB5/SPI1_MOSI,I2S1_SD,I2C1_SMBA,TIM16_BKIN,TIM3_CH2", 42 PB6 (io) "PB6/I2C1_SCL,USART1_TX,TIM16_CH1N", 43 PB7 (io) "PB7/I2C1_SDA,USART1_RX,TIM17_CH1N", 44 BOOT0 (in) "Boot memory selection", 45 PB8 (io) "PB8/I2C1_SCL,TIM16_CH1", 46 PB9 (io) "PB9/I2C1_SDA,IR_OUT,TIM17_CH1,EVENTOUT", 47 VSS (power) "Ground", 48 VDD (power) "Digital power supply"

## STM32F105RCT6
designator U?
MCU ARM 256KB FLASH MEM 64-LQFP; Manufacturer: STMicroelectronics; Part Number: STM32F105RCT6; ComponentLink1Description: DataSheet; ComponentLink1URL: https://static6.arrow.com/aropdfconversion/3fd6bc01359f79a4f9745354b823e6b7c79e203b/2083962039691295cd00220364.pdf; ComponentLink2Description: Chip&Dip; ComponentLink2URL: https://www.chipdip.ru/product0/8001787632; Type: IC
footprint LQFP64
pins: 1 VBAT (power), 2 PC13-TAMPER-RTC (io) "PC13-TAMPER-RTC/PC13/TAMPER-RTC", 3 PC14-OSC32_IN (io) "PC14-OSC32_IN/PC14/OSC32_IN", 4 PC15-OSC32_OUT (io) "PC15-OSC32_OUT/PC15/OSC32_OUT", 5 PD0-OSC_IN (io) "PD0/OSC_IN", 6 PD1-OSC_OUT (io) "PD1/OSC_OUT", 7 NRST (io), 8 PC0 (io) "PC0/ADC12_IN10", 9 PC1 (io) "PC1/ADC12_IN11/ETH_MII_MDC/ETH_RMII_MDC", 10 PC2 (io) "PC2/ADC12_IN12/ETH_MII_TXD2", 11 PC3 (io) "PC3/ADC12_IN13/ETH_MII_TX_CLK", 12 VSSA (power), 13 VDDA (power), 14 PA0-WKUP (io) "PA0-WKUP/PA0/WKUP/USART2_CTS/ADC12_IN0/TIM2_CH1_ETR/TIM5_CH1/ETH_MII_CRS_WKUP", 15 PA1 (io) "PA1/USART2_RTS/ADC12_IN1/TIM5_CH2/TIM2_CH2/ETH_MII_RX_CLK/ETH_RMII_REF_CLK", 16 PA2 (io) "PA2/USART2_TX/TIM5_CH3/ADC12_IN2/TIM2_CH3/ETH_MII_MDIO/ETH_RMII_MDIO", 17 PA3 (io) "PA3/USART2_RX/TIM5_CH4/ADC12_IN3/TIM2_CH4/ETH_MII_COL", 18 VSS_4 (power), 19 VDD_4 (power), 20 PA4 (io) "PA4/SPI1_NSS/DAC_OUT1/USART2_CK/ADC12_IN4/SPI3_NSS/I2S3_WS", 21 PA5 (io) "PA5/SPI1_SCK/DAC_OUT2/ADC12_IN5", 22 PA6 (io) "PA6/SPI1_MISO/ADC12_IN6/TIM3_CH1/TIM1_BKIN", 23 PA7 (io) "PA7/SPI1_MOSI/ADC12_IN7/TIM3_CH2/ETH_MII_RX_DV/ETH_RMII_CRS_DV/TIM1_CH1N", 24 PC4 (io) "PC4/ADC12_IN14/ETH_MII_RXD0/ETH_RMII_RXD0", 25 PC5 (io) "PC5/ADC12_IN15/ETH_MII_RXD1/ETH_RMII_RXD1", 26 PB0 (io) "PB0/ADC12_IN8/TIM3_CH3/ETH_MII_RXD2/TIM1_CH2N", 27 PB1 (io) "PB1/ADC12_IN9/TIM3_CH4/ETH_MII_RXD3/TIM1_CH3N", 28 PB2 (io) "PB2/BOOT1", 29 PB10 (io) "PB10/I2C2_SCL/USART3_TX/ETH_MII_RX_ER/TIM2_CH3", 30 PB11 (io) "PB11/I2C2_SDA/USART3_RX/ETH_MII_TX_EN/ETH_RMII_TX_EN/TIM2_CH4", 31 VSS_1 (power), 32 VDD_1 (power), 33 PB12 (io) "PB12/SPI2_NSS/I2S2_WS/I2C2_SMBA/USART3_CK/TIM1_BKIN/CAN2_RX/ETH_MII_TXD0/ETH_RMII_TXD0", 34 PB13 (io) "PB13/SPI2_SCK/I2S2_CK/USART3_CTS/TIM1_CH1N/CAN2_TX/ETH_MII_TXD1/ETH_RMII_TXD1", 35 PB14 (io) "PB14/SPI2_MISO/TIM1_CH2N/USART3_RTS", 36 PB15 (io) "PB15/SPI2_MOSI/I2S2_SD/TIM1_CH3N", 37 PC6 (io) "PC6/I2S2_MCK/TIM3_CH1", 38 PC7 (io) "PC7/I2S3_MCK/TIM3_CH2", 39 PC8 (io) "PC8/TIM3_CH3", 40 PC9 (io) "PC9/TIM3_CH4", 41 PA8 (io) "PA8/USART1_CK/OTG_FS_SOF/TIM1_CH1/MCO", 42 PA9 (io) "PA9/USART1_TX/TIM1_CH2/OTG_FS_VBUS", 43 PA10 (io) "PA10/USART1_RX/TIM1_CH3/OTG_FS_ID", 44 PA11 (io) "PA11/USART1_CTS/CAN1_RX/TIM1_CH4/OTG_FS_DM", 45 PA12 (io) "PA12/USART1_RTS/OTG_FS_DP/CAN1_TX/TIM1_ETR", 46 PA13 (SWDIO) (io) "PA13/JTMS-SWDIO", 47 VSS_2 (power), 48 VDD_2 (power), 49 PA14 (SWCLK) (io) "PA14/JTCK-SWCLK", 50 PA15 (io) "PA15/JTDI/SPI3_NSS/I2S3_WS/TIM2_CH1_ETR/SPI1_NSS", 51 PC10 (io) "PC10/UART4_TX/USART3_TX/SPI3_SCK/I2S3_CK", 52 PC11 (io) "PC11/UART4_RX/USART3_RX/SPI3_MISO", 53 PC12 (io) "PC12/UART5_TX/USART3_CK/SPI3_MOSI/I2S3_SD", 54 PD2 (io) "PD2/TIM3_ETR/UART5_RX", 55 PB3 (io) "PB3/JTDO/SPI3_SCK/I2S3_CK/TRACESWO/TIM2_CH2/SPI1_SCK", 56 PB4 (io) "PB4/NJTRST/SPI3_MISO/TIM3_CH1/SPI1_MISO", 57 PB5 (io) "PB5/I2C1_SMBA/SPI3_MOSI/ETH_MII_PPS_OUT/I2S3_SD/ETH_RMII_PPS_OUT/TIM3_CH2/SPI1_MOSI/CAN2_RX", 58 PB6 (io) "PB6/I2C1_SCL/TIM4_CH1/USART1_TX/CAN2_TX", 59 PB7 (io) "PB7/I2C1_SDA/TIM4_CH2/USART1_RX", 60 BOOT0 (in), 61 PB8 (io) "PB8/TIM4_CH3/ETH_MII_TXD3/I2C1_SCL/CAN1_RX", 62 PB9 (io) "PB9/TIM4_CH4/I2C1_SDA/CAN1_TX", 63 VSS_3 (power), 64 VDD_3 (power)

## Triac
designator D?
12A 600V; Part Number: BT138-600,127; Manufacturer: WeEn Semiconductors; Type: Diode; ComponentLink1Description: DataSheet; ComponentLink1URL: https://static.chipdip.ru/lib/204/DOC000204777.pdf; ComponentLink2Description: Chip&Dip; ComponentLink2URL: https://www.chipdip.ru/product/bt138-600
footprint TO-220
pins: 1, 2, 3

## TVS Diode 3.3V [SM2T]
designator D?, comment TVS 3.3V
High peak pulse power: 200 W (10/1000 μs); Part Number: SM2T3V3A; Manufacturer: STMicroelectronics; Type: Diode; ComponentLink1Description: DataSheet; ComponentLink1URL: https://www.st.com/resource/en/datasheet/sm2t3v3a.pdf; ComponentLink2Description: Chip&Dip; ComponentLink2URL: https://www.chipdip.ru/product0/8283670575
footprint DO-216AA
pins: 1, 2

## TVS Diode 3.3V [SMLV]
designator D?, comment TVS 3.3V
Peak pulse power 600 W (10/1000 μs); Part Number: SMLVT3V3; Manufacturer: STMicroelectronics; Type: Diode; ComponentLink1Description: DataSheet; ComponentLink1URL: https://static6.arrow.com/aropdfconversion/2319bd04916a0daef63ebff1e3e85da223b8eec0/4146.pdf; ComponentLink2Description: Chip&Dip; ComponentLink2URL: https://www.chipdip.ru/product/smlvt3v3-2
footprint SMB
pins: 1, 2

## TVS Diode 5V [PESD]
designator D?, comment TVS 5V
ESD Suppressor TVS 30KV,130W,  SOD-323; Part Number: PESD5V0S1BA,115; Manufacturer: Nexperia; Type: Diode; ComponentLink1Description: DataSheet; ComponentLink1URL: https://static.chipdip.ru/lib/160/DOC001160262.pdf; ComponentLink2Description: Chip&Dip; ComponentLink2URL: https://www.chipdip.ru/product/pesd5v0s1ba.115
footprint sod-323
pins: 1, 2

## TVS Diode 5V [SMBJ]
designator D?, comment TVS 5V
Peak pulse power: 600 W (10/1000 μs), 4 kW (8/20 μs); Part Number: SMBJ5.0CA-TR; Manufacturer: STMicroelectronics; Type: Diode; ComponentLink1Description: DataSheet; ComponentLink1URL: https://static6.arrow.com/aropdfconversion/ee4838c0939fd68177ef9747b63ca424c7b9f39b/519651672847221cd0000.pdf; ComponentLink2Description: Chip&Dip; ComponentLink2URL: https://www.chipdip.ru/product/smbj5.0ca-tr
footprint SMB
pins: 1, 2

## TVS Diode 12V (SMB)
designator D?, comment TVS 12V
Transil™ TVS SMT Unidirectional 600W; Part Number: SMBJ12A-TR; Manufacturer: STMicroelectronics; Type: Diode; ComponentLink1Description: DataSheet; ComponentLink1URL: https://static6.arrow.com/aropdfconversion/ee4838c0939fd68177ef9747b63ca424c7b9f39b/519651672847221cd0000.pdf; ComponentLink2Description: Chip&Dip; ComponentLink2URL: https://www.chipdip.ru/product/smbj12ca
footprint SMB
pins: 1, 2

## TVS Diode 12V (SOD-123)
designator D?, comment TVS 12V
200W; Part Number: SMF12A; Manufacturer: Yangzhou Yangjie Electronic Technology; Type: Diode; ComponentLink1Description: DataSheet; ComponentLink1URL: https://static.chipdip.ru/lib/152/DOC001152952.pdf; ComponentLink2Description: Chip&Dip; ComponentLink2URL: https://www.chipdip.ru/product/smf12a
footprint SOD-123FL
pins: 1, 2

## TVS Diode 36V (SMB)
designator D?, comment TVS 36V
600W; Part Number: SMBJ36CA-TR; Manufacturer: STMicroelectronics; Type: Diode; ComponentLink1Description: DataSheet; ComponentLink1URL: https://static6.arrow.com/aropdfconversion/ee4838c0939fd68177ef9747b63ca424c7b9f39b/519651672847221cd0000.pdf; ComponentLink2Description: Chip&Dip; ComponentLink2URL: https://www.chipdip.ru/product/smbj36ca
footprint SMB
pins: 1, 2

## TVS Diode Arrays
designator D?, comment TVS
Part Number: SM24CANB-02HTG; Manufacturer: Littelfuse; Type: Diode; ComponentLink1Description: DataSheet; ComponentLink1URL: https://m.littelfuse.com/~/media/electronics/datasheets/tvs_diode_arrays/littelfuse_tvs_diode_array_sm24canb_datasheet.pdf.pdf; ComponentLink2Description: Chip&Dip; ComponentLink2URL: https://www.chipdip.ru/product1/8001779022
footprint SOT-23
pins: 1, 2, 3

## USB UART IC
designator U?, comment FT232RL
FTDI; Part Number: FT232RL-REEL; Manufacturer: Future Technology Devices; ComponentLink1Description: DataSheet; ComponentLink1URL: https://static.chipdip.ru/lib/222/DOC000222844.pdf; ComponentLink2Description: Chip&Dip; ComponentLink2URL: https://www.chipdip.ru/product/ft232rl; Type: IC
footprint SSOP28 (SOP, 28-Leads, Body 10.2x5.3mm, Pitch 0.65mm, IPC Low Density)
pins: 1 TXD (out), 2 DTR (out), 3 RTS (out), 4 VCCIO (power), 5 RXD (in), 6 RI (in), 7 GND (power), 8 NC, 9 DSR (in), 10 DCD (in), 11 CTS (in), 12 CBUS4 (io), 13 CBUS2 (io), 14 CBUS3 (io), 15 USBDP (io), 16 USBDM (io), 17 3V3OUT (out), 18 GND (power), 19 RESET (in), 20 VCC (power), 21 GND (power), 22 CBUS1 (io), 23 CBUS0 (io), 24 NC, 25 AGND (power), 26 TEST (in), 27 OSCI (in), 28 OSCO (out)

## Varistor (0603)
designator V?, comment Varistor
ESD Suppressor Multilayer Varistor 5V Automotive 2-Pin Case 0603 T/R; Part Number: CG0603MLC-05E; Manufacturer: Bourns; Type: Varistor; ComponentLink1Description: Chip&Dip; ComponentLink1URL: https://www.chipdip.ru/product1/8000649323?from=suggest_product
footprint 0603 Resistor
pins: 1, 2

## Zener Diode 3V
designator D?, comment Zener 3V
500mW; Part Number: MMSZ5225B; Manufacturer: Yangzhou Yangjie Electronic Technology; Type: Diode; ComponentLink1Description: Chip&Dip; ComponentLink1URL: https://www.chipdip.ru/product/mmsz5225b; ComponentLink2Description: DataSheet; ComponentLink2URL: https://static.chipdip.ru/lib/152/DOC001152772.pdf
footprint sod-123
pins: 1, 2

## Zener Diode 5.1V
designator D?, comment Zener 5.1V
300mW; Part Number: BZX384-C5V1,115; Manufacturer: Nexperia; Type: Diode; ComponentLink1Description: Chip&Dip; ComponentLink1URL: https://www.chipdip.ru/product/bzx384-c5v1; ComponentLink2Description: DataSheet; ComponentLink2URL: https://static.chipdip.ru/lib/164/DOC001164636.pdf
footprint sod-323
pins: 1, 2

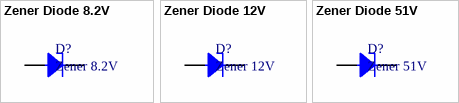
[diagram p5: symbols Zener Diode 8.2V to Zener Diode 51V]

## Zener Diode 8.2V
designator D?, comment Zener 8.2V
500mW; Part Number: MMSZ8V2T1G; Manufacturer: ON Semiconductor; Type: Diode; ComponentLink1Description: Chip&Dip; ComponentLink1URL: https://www.chipdip.ru/product/mmsz8v2t1g; ComponentLink2Description: DataSheet; ComponentLink2URL: https://static.chipdip.ru/lib/776/DOC002776192.pdf
footprint sod-123
pins: 1, 2

## Zener Diode 12V
designator D?, comment Zener 12V
300mW; Part Number: BZX384-C12,115; Manufacturer: NXP Semiconductor; Type: Diode; ComponentLink1Description: Chip&Dip; ComponentLink1URL: https://www.chipdip.ru/product/bzx384-c12.115; ComponentLink2Description: DataSheet; ComponentLink2URL: https://static.chipdip.ru/lib/583/DOC001583013.pdf
footprint sod-323
pins: 1, 2

## Zener Diode 51V
designator D?, comment Zener 51V
1W; Part Number: KC551A1; Manufacturer: Russia; Type: Diode; ComponentLink1Description: Chip&Dip; ComponentLink1URL: https://www.chipdip.ru/product/ks551a1
footprint KD-3A
pins: 1, 2